# Altium integrated library ConnHDR_SMD.IntLib: 39 symbols
Pins are listed as number, name and electrical type; pins without a type are passive.

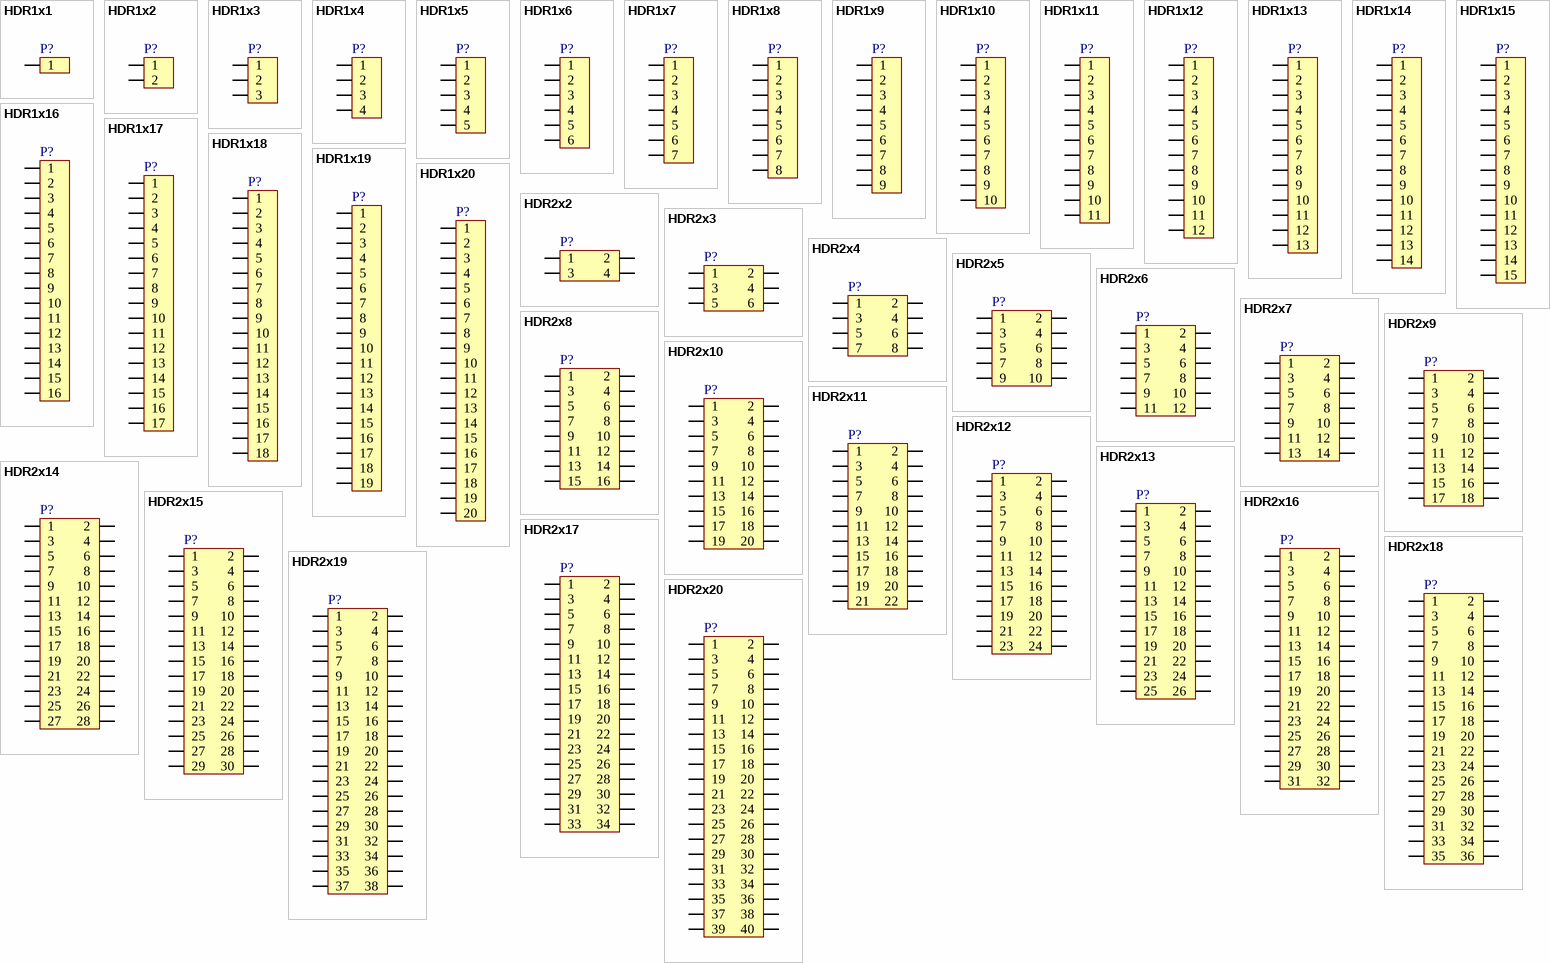
[diagram p0: symbols HDR1x1 to HDR2x20]

## HDR1x1
designator P?
Header; Populated: Yes; LifeCycle: Checked; ROHS: Yes
pins: 1

## HDR1x2
designator P?
Header; Populated: Yes; LifeCycle: Checked; ROHS: Yes
pins: 1, 2

## HDR1x3
designator P?
Header; Populated: Yes; LifeCycle: Checked; ROHS: Yes
pins: 1, 2, 3

## HDR1x4
designator P?
Header; Populated: Yes; LifeCycle: Checked; ROHS: Yes
footprint SULLINS-NPTC041KFXC-RC (CONN HDR 4POS 0.1 TIN SMD)
pins: 1, 2, 3, 4

## HDR1x5
designator P?
Header; Populated: Yes; LifeCycle: Checked; ROHS: Yes
pins: 1, 2, 3, 4, 5

## HDR1x6
designator P?
Header; Populated: Yes; LifeCycle: Checked; ROHS: Yes
pins: 1, 2, 3, 4, 5, 6

## HDR1x7
designator P?
Header; Populated: Yes; LifeCycle: Checked; ROHS: Yes
pins: 1, 2, 3, 4, 5, 6, 7

## HDR1x8
designator P?
Header; Populated: Yes; LifeCycle: Checked; ROHS: Yes
pins: 1, 2, 3, 4, 5, 6, 7, 8

## HDR1x9
designator P?
Header; Populated: Yes; LifeCycle: Checked; ROHS: Yes
pins: 1, 2, 3, 4, 5, 6, 7, 8, 9

## HDR1x10
designator P?
Header; Populated: Yes; LifeCycle: Checked; ROHS: Yes
pins: 1, 2, 3, 4, 5, 6, 7, 8, 9, 10

## HDR1x11
designator P?
Header; Populated: Yes; LifeCycle: Checked; ROHS: Yes
pins: 1, 2, 3, 4, 5, 6, 7, 8, 9, 10, 11

## HDR1x12
designator P?
Header; Populated: Yes; LifeCycle: Checked; ROHS: Yes
pins: 1, 2, 3, 4, 5, 6, 7, 8, 9, 10, 11, 12

## HDR1x13
designator P?
Header; Populated: Yes; LifeCycle: Checked; ROHS: Yes
pins: 1, 2, 3, 4, 5, 6, 7, 8, 9, 10, 11, 12, 13

## HDR1x14
designator P?
Header; Populated: Yes; LifeCycle: Checked; ROHS: Yes
pins: 1, 2, 3, 4, 5, 6, 7, 8, 9, 10, 11, 12, 13, 14

## HDR1x15
designator P?
Header; Populated: Yes; LifeCycle: Checked; ROHS: Yes
pins: 1, 2, 3, 4, 5, 6, 7, 8, 9, 10, 11, 12, 13, 14, 15

## HDR1x16
designator P?
Header; Populated: Yes; LifeCycle: Checked; ROHS: Yes
pins: 1, 2, 3, 4, 5, 6, 7, 8, 9, 10, 11, 12, 13, 14, 15, 16

## HDR1x17
designator P?
Header; Populated: Yes; LifeCycle: Checked; ROHS: Yes
pins: 1, 2, 3, 4, 5, 6, 7, 8, 9, 10, 11, 12, 13, 14, 15, 16, 17

## HDR1x18
designator P?
Header; Populated: Yes; LifeCycle: Checked; ROHS: Yes
pins: 1, 2, 3, 4, 5, 6, 7, 8, 9, 10, 11, 12, 13, 14, 15, 16, 17, 18

## HDR1x19
designator P?
Header; Populated: Yes; LifeCycle: Checked; ROHS: Yes
pins: 1, 2, 3, 4, 5, 6, 7, 8, 9, 10, 11, 12, 13, 14, 15, 16, 17, 18, 19

## HDR1x20
designator P?
Header; Populated: Yes; LifeCycle: Checked; ROHS: Yes
pins: 1, 2, 3, 4, 5, 6, 7, 8, 9, 10, 11, 12, 13, 14, 15, 16, 17, 18, 19, 20

## HDR2x2
designator P?
Header; Populated: Yes; LifeCycle: Checked; ROHS: Yes
pins: 1, 2, 3, 4

## HDR2x3
designator P?
Header; Populated: Yes; LifeCycle: Checked; ROHS: Yes
pins: 1, 2, 3, 4, 5, 6

## HDR2x4
designator P?
Header; Populated: Yes; LifeCycle: Checked; ROHS: Yes
pins: 1, 2, 3, 4, 5, 6, 7, 8

## HDR2x5
designator P?
Header; Populated: Yes; LifeCycle: Checked; ROHS: Yes
footprint CNC-TECH_3020-10-0300-00 (CONN HEADER SMD 10POS 2.54MM)
pins: 1, 2, 3, 4, 5, 6, 7, 8, 9, 10

## HDR2x6
designator P?
Header; Populated: Yes; LifeCycle: Checked; ROHS: Yes
pins: 1, 2, 3, 4, 5, 6, 7, 8, 9, 10, 11, 12

## HDR2x7
designator P?
Header; Populated: Yes; LifeCycle: Checked; ROHS: Yes
pins: 1, 2, 3, 4, 5, 6, 7, 8, 9, 10, 11, 12, 13, 14

## HDR2x8
designator P?
Header; Populated: Yes; LifeCycle: Checked; ROHS: Yes
pins: 1, 2, 3, 4, 5, 6, 7, 8, 9, 10, 11, 12, 13, 14, 15, 16

## HDR2x9
designator P?
Header; Populated: Yes; LifeCycle: Checked; ROHS: Yes
pins: 1, 2, 3, 4, 5, 6, 7, 8, 9, 10, 11, 12, 13, 14, 15, 16, 17, 18

## HDR2x10
designator P?
Header; Populated: Yes; LifeCycle: Checked; ROHS: Yes
pins: 1, 2, 3, 4, 5, 6, 7, 8, 9, 10, 11, 12, 13, 14, 15, 16, 17, 18, 19, 20

## HDR2x11
designator P?
Header; Populated: Yes; LifeCycle: Checked; ROHS: Yes
pins: 1, 2, 3, 4, 5, 6, 7, 8, 9, 10, 11, 12, 13, 14, 15, 16, 17, 18, 19, 20, 21, 22

## HDR2x12
designator P?
Header; Populated: Yes; LifeCycle: Checked; ROHS: Yes
pins: 1, 2, 3, 4, 5, 6, 7, 8, 9, 10, 11, 12, 13, 14, 15, 16, 17, 18, 19, 20, 21, 22, 23, 24

## HDR2x13
designator P?
Header; Populated: Yes; LifeCycle: Checked; ROHS: Yes
pins: 1, 2, 3, 4, 5, 6, 7, 8, 9, 10, 11, 12, 13, 14, 15, 16, 17, 18, 19, 20, 21, 22, 23, 24, 25, 26

## HDR2x14
designator P?
Header; Populated: Yes; LifeCycle: Checked; ROHS: Yes
pins: 1, 2, 3, 4, 5, 6, 7, 8, 9, 10, 11, 12, 13, 14, 15, 16, 17, 18, 19, 20, 21, 22, 23, 24, 25, 26, 27, 28

## HDR2x15
designator P?
Header; Populated: Yes; LifeCycle: Checked; ROHS: Yes
pins: 1, 2, 3, 4, 5, 6, 7, 8, 9, 10, 11, 12, 13, 14, 15, 16, 17, 18, 19, 20, 21, 22, 23, 24, 25, 26, 27, 28, 29, 30

## HDR2x16
designator P?
Header; Populated: Yes; LifeCycle: Checked; ROHS: Yes
pins: 1, 2, 3, 4, 5, 6, 7, 8, 9, 10, 11, 12, 13, 14, 15, 16, 17, 18, 19, 20, 21, 22, 23, 24, 25, 26, 27, 28, 29, 30, 31, 32

## HDR2x17
designator P?
Header; Populated: Yes; LifeCycle: Checked; ROHS: Yes
pins: 1, 2, 3, 4, 5, 6, 7, 8, 9, 10, 11, 12, 13, 14, 15, 16, 17, 18, 19, 20, 21, 22, 23, 24, 25, 26, 27, 28, 29, 30, 31, 32, 33, 34

## HDR2x18
designator P?
Header; Populated: Yes; LifeCycle: Checked; ROHS: Yes
pins: 1, 2, 3, 4, 5, 6, 7, 8, 9, 10, 11, 12, 13, 14, 15, 16, 17, 18, 19, 20, 21, 22, 23, 24, 25, 26, 27, 28, 29, 30, 31, 32, 33, 34, 35, 36

## HDR2x19
designator P?
Header; Populated: Yes; LifeCycle: Checked; ROHS: Yes
pins: 1, 2, 3, 4, 5, 6, 7, 8, 9, 10, 11, 12, 13, 14, 15, 16, 17, 18, 19, 20, 21, 22, 23, 24, 25, 26, 27, 28, 29, 30, 31, 32, 33, 34, 35, 36, 37, 38

## HDR2x20
designator P?
Header; Populated: Yes; LifeCycle: Checked; ROHS: Yes
pins: 1, 2, 3, 4, 5, 6, 7, 8, 9, 10, 11, 12, 13, 14, 15, 16, 17, 18, 19, 20, 21, 22, 23, 24, 25, 26, 27, 28, 29, 30, 31, 32, 33, 34, 35, 36, 37, 38, 39, 40